# Altium schematic symbol library KB-磁轴-3P.SchLib: 1 symbol
Pins are listed as number, name and electrical type; pins without a type are passive.

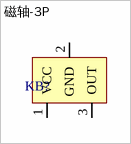
[diagram p0: symbol 磁轴-3P]

## 磁轴-3P
designator KB?
pins: 1 VCC, 2 GND, 3 OUT